# EAGLE library part EA_DOGM240-6 (library ea_v66)
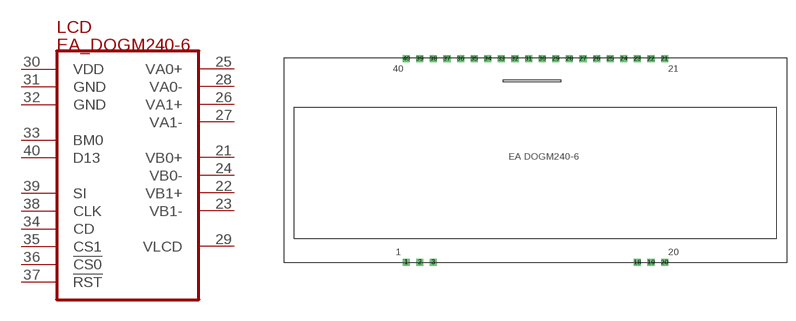
[diagram p8: symbol with the pads of EA_DOGM240-6; footprint EA_DOGM240-6]

Designator prefix LCD

## EA_DOGM240-6  [EA_DOGM240-6]
21  VB0+  pas
22  VB1+  pas
23  VB1-  pas
24  VB0-  pas
25  VA0+  pas
26  VA1+  pas
27  VA1-  pas
28  VA0-  pas
29  VLCD  pas
30  VDD  pwr
31  GND  pwr
32  GND  pwr
33  BM0  in
34  CD  in
35  CS1  in
36  !CS0!  in
37  !RST!  in
38  CLK  in
39  SI  in
40  D13  in

## Footprint EA_DOGM240-6 (pad centres in mm)
drill 0.813 square: 1 0,0; 2 2.54,0; 3 5.08,0; 18 43.18,0; 19 45.72,0; 20 48.26,0; 21 48.26,38.1; 22 45.72,38.1; 23 43.18,38.1; 24 40.64,38.1; 25 38.1,38.1; 26 35.56,38.1; 27 33.02,38.1; 28 30.48,38.1; 29 27.94,38.1; 30 25.4,38.1; 31 22.86,38.1; 32 20.32,38.1; 33 17.78,38.1; 34 15.24,38.1; 35 12.7,38.1; 36 10.16,38.1; 37 7.62,38.1; 38 5.08,38.1; 39 2.54,38.1; 40 0,38.1